# EAGLE library part RHD2000-CABLE-DAQ-SIDE-SINGLE (library puggleboard)
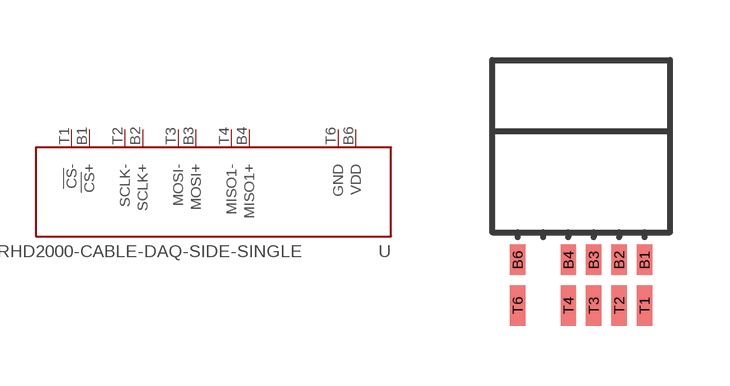
[diagram p3: symbol with the pads of OMNETICS_PZN_12_AA-SINGLEBUS; footprint OMNETICS_PZN_12_AA-SINGLEBUS]

Designator prefix -

## RHD2000-CABLE-DAQ-SIDE-SINGLE  [OMNETICS_PZN_12_AA-SINGLEBUS]
B1  !CS!+
B2  SCLK+
B3  MOSI+
B4  MISO1+
B6  VDD
T1  !CS!-
T2  SCLK-
T3  MOSI-
T4  MISO1-
T6  GND  pwr

## Footprint OMNETICS_PZN_12_AA-SINGLEBUS (pad centres in mm)
smd 0.381 x 0.762: B1 1.587,-2.286; B2 0.953,-2.286; B3 0.318,-2.286; B4 -0.318,-2.286; B6 -1.587,-2.286
smd 0.381 x 1.016: T1 1.587,-3.429; T2 0.953,-3.429; T3 0.318,-3.429; T4 -0.318,-3.429; T6 -1.587,-3.429